# Altium schematic symbol library SS2FN6HM3_H.SchLib: 1 symbol
Pins are listed as number, name and electrical type; pins without a type are passive.

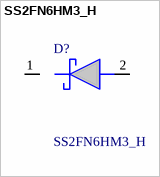
[diagram p0: symbol SS2FN6HM3_H]

## SS2FN6HM3_H
designator D?
Schottky Diodes & Rectifiers 60V Vrrm 2A IF(AV) A EC-Q101 Qualified; Manufacturer_Name: Vishay; Manufacturer_Part_Number: SS2FN6HM3/H; Geometry.Height: 1.08mm; Mouser Part Number: 78-SS2FN6HM3/H; Mouser Price/Stock: https://www.mouser.co.uk/ProductDetail/Vishay-General-Semiconductor/SS2FN6HM3-H?qs=ECv811tYSNgeSl37rhIfaw%3D%3D; Datasheet Link: https://www.mouser.co.uk/datasheet/2/427/ss2fn6-1125621.pdf
footprint SODFL3718X108N
pins: 1 K, 2 A